# Altium integrated library TI Power Management Power Modules.IntLib: 831 symbols (part 35 of 44)
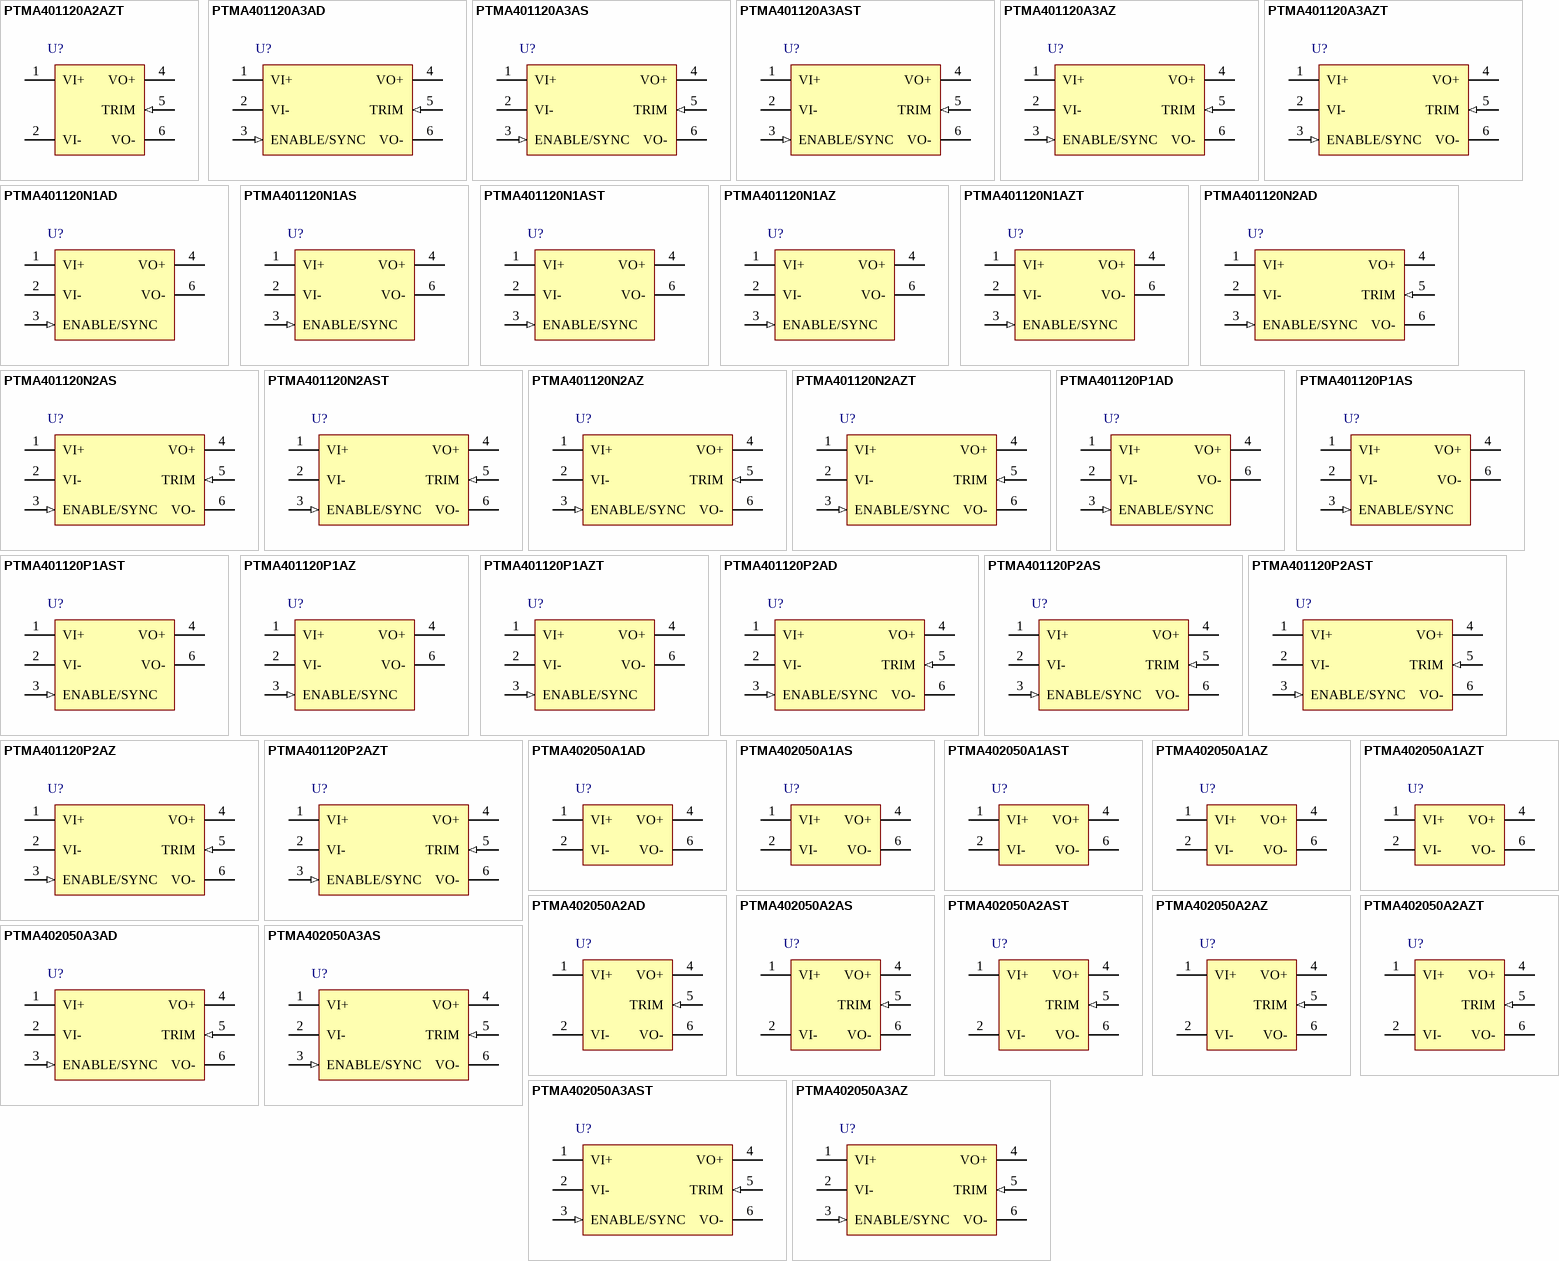
[diagram p57: symbols PTMA401120A2AZT to PTMA402050A3AZ]

## PTMA401120N1AD
designator U?
10 W, 36 to 75 V Input, 1500 V Isolation, DC-DC Converter, -40 to 85 degC, 5-pin Module (EEP5), Pb-Free (RoHS); Manufacturer: Texas Instruments; PartNumber: PTMA401120N1AD; Iout(Max)(A): 1; SubFamily: 48V Standard Pinout Brick and 36V to 75V Input; Vin(Max)(V): 75; Vin(Min)(V): 36; Vout(Max)(V): 13.2; Vout(Min)(V): 10.8; DatasheetVersion: SLTS259B; PackageVersion: 4207367-3/C; PackageReference: EEP5; PackageDescription: 5-Pin Plastic Special Shape, Body 24.38 x 27.94 mm; Supplier 1: Digi-Key; Supplier Part Number 1: 296-21468-ND; Supplier 2: Newark; Supplier Part Number 2: 99K4139; Supplier 3: Mouser; Supplier Part Number 3: 595-PTMA401120N1AD; Eco-Plan: Pb-Free (RoHS); Regulated Outputs(#): 1; Mounting Technology: Through Hole; ComponentLink1Description: Manufacturer URL; ComponentLink1URL: http://www.ti.com/; ComponentLink2Description: Datasheet; ComponentLink2URL: http://www.ti.com/general/docs/lit/getliterature.tsp?genericPartNumber=PTMA401120&fileType=pdf; ComponentLink3Description: Package Specification; ComponentLink3URL: http://www.ti.com/litv/pdf/mpds249; ComponentLink4Description: URL Link1; ComponentLink4URL: Samples URL:http://www.ti.com/product/ptma401120#samples
footprint TI-EEP5_V (Module, 5-Leads, Body 27.94x24.38mm)
pins: 1 VI+ (power) "The positive input for the module with respect to VI-. When powering the module from a negative input voltage, this input is connected to the input source ground.", 2 VI- (power) "The negative input supply for the module, and the 0-V reference for the Enable/Sync inputs. When powering the module from a positive source, this input is connected to the input source return.", 3 ENABLE/SYNC (in) "The Enable input is an open-base logic input that is referenced to VI-. Two ON/OFF enable options are available, positve logic and negative logic. Positive logic devices are enabled by applying a logic high voltage (Open) (See Datasheet)", 4 VO+ (power) "This is the positive power output with respect to VO-. It is dc isolated from the input power pins.", 6 VO- (power) "This is the output power return for the VO+ bus. This terminal should be connected to the common of the load circuit."

## PTMA401120N1AS
designator U?
10 W, 36 to 75 V Input, 1500 V Isolation, DC-DC Converter, -40 to 85 degC, 5-pin Module (EET5); Manufacturer: Texas Instruments; PartNumber: PTMA401120N1AS; Eco-Plan: TBD; Iout(Max)(A): 1; SubFamily: 48V Standard Pinout Brick and 36V to 75V Input; Vin(Max)(V): 75; Vin(Min)(V): 36; Vout(Max)(V): 13.2; Vout(Min)(V): 10.8; DatasheetVersion: SLTS259B; PackageVersion: 4207368-3/C; PackageReference: EET5; PackageDescription: 5-Pin Plastic Special Shape, Body 24.38 x 27.94 mm; Supplier 1: Digi-Key; Supplier Part Number 1: PTMA401120N1AS-ND; Supplier 2: Newark; Supplier Part Number 2: 99K4140; Supplier 3: Mouser; Supplier Part Number 3: 595-PTMA401120N1AS; Regulated Outputs(#): 1; Mounting Technology: Surface Mount; ComponentLink1Description: Manufacturer URL; ComponentLink1URL: http://www.ti.com/; ComponentLink2Description: Datasheet; ComponentLink2URL: http://www.ti.com/general/docs/lit/getliterature.tsp?genericPartNumber=PTMA401120&fileType=pdf; ComponentLink3Description: Package Specification; ComponentLink3URL: http://www.ti.com/litv/pdf/mpds250; ComponentLink4Description: URL Link1; ComponentLink4URL: Samples URL:http://www.ti.com/product/ptma401120#samples
footprint TI-EET5_V (Module, 5-Leads, Body 27.94x24.38mm)
pins: 1 VI+ (power) "The positive input for the module with respect to VI-. When powering the module from a negative input voltage, this input is connected to the input source ground.", 2 VI- (power) "The negative input supply for the module, and the 0-V reference for the Enable/Sync inputs. When powering the module from a positive source, this input is connected to the input source return.", 3 ENABLE/SYNC (in) "The Enable input is an open-base logic input that is referenced to VI-. Two ON/OFF enable options are available, positve logic and negative logic. Positive logic devices are enabled by applying a logic high voltage (Open) (See Datasheet)", 4 VO+ (power) "This is the positive power output with respect to VO-. It is dc isolated from the input power pins.", 6 VO- (power) "This is the output power return for the VO+ bus. This terminal should be connected to the common of the load circuit."

## PTMA401120N1AST
designator U?
10 W, 36 to 75 V Input, 1500 V Isolation, DC-DC Converter, -40 to 85 degC, 5-pin Module (EET5); Manufacturer: Texas Instruments; PartNumber: PTMA401120N1AST; Eco-Plan: TBD; Iout(Max)(A): 1; SubFamily: 48V Standard Pinout Brick and 36V to 75V Input; Vin(Max)(V): 75; Vin(Min)(V): 36; Vout(Max)(V): 13.2; Vout(Min)(V): 10.8; DatasheetVersion: SLTS259B; PackageVersion: 4207368-3/C; PackageReference: EET5; PackageDescription: 5-Pin Plastic Special Shape, Body 24.38 x 27.94 mm; Supplier 1: Digi-Key; Supplier Part Number 1: PTMA401120N1AST-ND; Supplier 2: Mouser; Supplier Part Number 2: 595-PTMA401120N1AST; Regulated Outputs(#): 1; Mounting Technology: Surface Mount; ComponentLink1Description: Manufacturer URL; ComponentLink1URL: http://www.ti.com/; ComponentLink2Description: Datasheet; ComponentLink2URL: http://www.ti.com/general/docs/lit/getliterature.tsp?genericPartNumber=PTMA401120&fileType=pdf; ComponentLink3Description: Package Specification; ComponentLink3URL: http://www.ti.com/litv/pdf/mpds250; ComponentLink4Description: URL Link1; ComponentLink4URL: Samples URL:http://www.ti.com/product/ptma401120#samples
footprint TI-EET5_V (Module, 5-Leads, Body 27.94x24.38mm)
pins: 1 VI+ (power) "The positive input for the module with respect to VI-. When powering the module from a negative input voltage, this input is connected to the input source ground.", 2 VI- (power) "The negative input supply for the module, and the 0-V reference for the Enable/Sync inputs. When powering the module from a positive source, this input is connected to the input source return.", 3 ENABLE/SYNC (in) "The Enable input is an open-base logic input that is referenced to VI-. Two ON/OFF enable options are available, positve logic and negative logic. Positive logic devices are enabled by applying a logic high voltage (Open) (See Datasheet)", 4 VO+ (power) "This is the positive power output with respect to VO-. It is dc isolated from the input power pins.", 6 VO- (power) "This is the output power return for the VO+ bus. This terminal should be connected to the common of the load circuit."

## PTMA401120N1AZ
designator U?
10 W, 36 to 75 V Input, 1500 V Isolation, DC-DC Converter, -40 to 85 degC, 5-pin Module (BET5), Pb-Free (RoHS); Manufacturer: Texas Instruments; PartNumber: PTMA401120N1AZ; Iout(Max)(A): 1; SubFamily: 48V Standard Pinout Brick and 36V to 75V Input; Vin(Max)(V): 75; Vin(Min)(V): 36; Vout(Max)(V): 13.2; Vout(Min)(V): 10.8; DatasheetVersion: SLTS259B; PackageVersion: 4207711-3/B; PackageReference: BET5; PackageDescription: 5-Pin Plastic Special Shape, Body 24.38 x 27.94 mm; Supplier 1: Digi-Key; Supplier Part Number 1: 296-21469-ND; Supplier 2: Newark; Supplier Part Number 2: 99K4142; Supplier 3: Mouser; Supplier Part Number 3: 595-PTMA401120N1AZ; Eco-Plan: Pb-Free (RoHS); Regulated Outputs(#): 1; Mounting Technology: Surface Mount; ComponentLink1Description: Manufacturer URL; ComponentLink1URL: http://www.ti.com/; ComponentLink2Description: Datasheet; ComponentLink2URL: http://www.ti.com/general/docs/lit/getliterature.tsp?genericPartNumber=PTMA401120&fileType=pdf; ComponentLink3Description: Package Specification; ComponentLink3URL: http://www-s.ti.com/sc/psheets/mpds255a/mpds255a.pdf; ComponentLink4Description: URL Link1; ComponentLink4URL: Samples URL:http://www.ti.com/product/ptma401120#samples
footprint TI-BET5_V (Module, 5-Leads, Body 27.94x24.38mm)
pins: 1 VI+ (power) "The positive input for the module with respect to VI-. When powering the module from a negative input voltage, this input is connected to the input source ground.", 2 VI- (power) "The negative input supply for the module, and the 0-V reference for the Enable/Sync inputs. When powering the module from a positive source, this input is connected to the input source return.", 3 ENABLE/SYNC (in) "The Enable input is an open-base logic input that is referenced to VI-. Two ON/OFF enable options are available, positve logic and negative logic. Positive logic devices are enabled by applying a logic high voltage (Open) (See Datasheet)", 4 VO+ (power) "This is the positive power output with respect to VO-. It is dc isolated from the input power pins.", 6 VO- (power) "This is the output power return for the VO+ bus. This terminal should be connected to the common of the load circuit."

## PTMA401120N1AZT
designator U?
10 W, 36 to 75 V Input, 1500 V Isolation, DC-DC Converter, -40 to 85 degC, 5-pin Module (BET5); Manufacturer: Texas Instruments; PartNumber: PTMA401120N1AZT; Eco-Plan: TBD; Iout(Max)(A): 1; SubFamily: 48V Standard Pinout Brick and 36V to 75V Input; Vin(Max)(V): 75; Vin(Min)(V): 36; Vout(Max)(V): 13.2; Vout(Min)(V): 10.8; DatasheetVersion: SLTS259B; PackageVersion: 4207711-3/B; PackageReference: BET5; PackageDescription: 5-Pin Plastic Special Shape, Body 24.38 x 27.94 mm; Supplier 1: Digi-Key; Supplier Part Number 1: PTMA401120N1AZT-ND; Supplier 2: Mouser; Supplier Part Number 2: 595-PTMA401120N1AZT; Regulated Outputs(#): 1; Mounting Technology: Surface Mount; ComponentLink1Description: Manufacturer URL; ComponentLink1URL: http://www.ti.com/; ComponentLink2Description: Datasheet; ComponentLink2URL: http://www.ti.com/general/docs/lit/getliterature.tsp?genericPartNumber=PTMA401120&fileType=pdf; ComponentLink3Description: Package Specification; ComponentLink3URL: http://www-s.ti.com/sc/psheets/mpds255a/mpds255a.pdf; ComponentLink4Description: URL Link1; ComponentLink4URL: Samples URL:http://www.ti.com/product/ptma401120#samples
footprint TI-BET5_V (Module, 5-Leads, Body 27.94x24.38mm)
pins: 1 VI+ (power) "The positive input for the module with respect to VI-. When powering the module from a negative input voltage, this input is connected to the input source ground.", 2 VI- (power) "The negative input supply for the module, and the 0-V reference for the Enable/Sync inputs. When powering the module from a positive source, this input is connected to the input source return.", 3 ENABLE/SYNC (in) "The Enable input is an open-base logic input that is referenced to VI-. Two ON/OFF enable options are available, positve logic and negative logic. Positive logic devices are enabled by applying a logic high voltage (Open) (See Datasheet)", 4 VO+ (power) "This is the positive power output with respect to VO-. It is dc isolated from the input power pins.", 6 VO- (power) "This is the output power return for the VO+ bus. This terminal should be connected to the common of the load circuit."

## PTMA401120N2AD
designator U?
10 W, 36 to 75 V Input, 1500 V Isolation, DC-DC Converter, -40 to 85 degC, 6-pin Module (EEP6), Pb-Free (RoHS); Manufacturer: Texas Instruments; PartNumber: PTMA401120N2AD; Iout(Max)(A): 1; SubFamily: 48V Standard Pinout Brick and 36V to 75V Input; Vin(Max)(V): 75; Vin(Min)(V): 36; Vout(Max)(V): 13.2; Vout(Min)(V): 10.8; DatasheetVersion: SLTS259B; PackageVersion: 4207367-4/C; PackageReference: EEP6; PackageDescription: 6-Pin Plastic Special Shape, Body 24.38 x 27.94 mm; Supplier 1: Digi-Key; Supplier Part Number 1: 296-19774-ND; Supplier 2: Newark; Supplier Part Number 2: 99K4144; Supplier 3: Mouser; Supplier Part Number 3: 595-PTMA401120N2AD; Eco-Plan: Pb-Free (RoHS); Regulated Outputs(#): 1; Mounting Technology: Through Hole; ComponentLink1Description: Manufacturer URL; ComponentLink1URL: http://www.ti.com/; ComponentLink2Description: Datasheet; ComponentLink2URL: http://www.ti.com/general/docs/lit/getliterature.tsp?genericPartNumber=PTMA401120&fileType=pdf; ComponentLink3Description: Package Specification; ComponentLink3URL: http://www.ti.com/litv/pdf/mpds232b; ComponentLink4Description: URL Link1; ComponentLink4URL: Samples URL:http://www.ti.com/product/ptma401120#samples
footprint TI-EEP6_V (Module, 6-Leads, Body 27.94x24.38mm)
pins: 1 VI+ (power) "The positive input for the module with respect to VI- When powering the module from a negative input voltage, this input is connected to the input source ground.", 2 VI- (power) "The negative input supply for the module, and the 0-V reference for the Enable/Sync inputs. When powering the module from a positive source, this input is connected to the input source return.", 3 ENABLE/SYNC (in), 4 VO+ (power) "This is the positive power output with respect to VO-. It is dc isolated from the input power pins.", 5 TRIM (in) "This pin allows the output voltage set point of the module to be increased or decreased up to +/- 10 %. Connecting a resistor between this terminal and VO+ decreases the output voltage set point. Connecting a resistor (See Datasheet)", 6 VO- (power) "This is the output power return for the VO+ bus. This terminal should be connected to the common of the load circuit."

## PTMA401120N2AS
designator U?
10 W, 36 to 75 V Input, 1500 V Isolation, DC-DC Converter, -40 to 85 degC, 6-pin Module (EET6); Manufacturer: Texas Instruments; PartNumber: PTMA401120N2AS; Eco-Plan: TBD; Iout(Max)(A): 1; SubFamily: 48V Standard Pinout Brick and 36V to 75V Input; Vin(Max)(V): 75; Vin(Min)(V): 36; Vout(Max)(V): 13.2; Vout(Min)(V): 10.8; DatasheetVersion: SLTS259B; PackageVersion: 4207368-4/C; PackageReference: EET6; PackageDescription: 6-Pin Plastic Special Shape, Body 24.38 x 27.94 mm; Supplier 1: Digi-Key; Supplier Part Number 1: 296-19775-ND; Supplier 2: Newark; Supplier Part Number 2: 99K4145; Supplier 3: Mouser; Supplier Part Number 3: 595-PTMA401120N2AS; Regulated Outputs(#): 1; Mounting Technology: Surface Mount; ComponentLink1Description: Manufacturer URL; ComponentLink1URL: http://www.ti.com/; ComponentLink2Description: Datasheet; ComponentLink2URL: http://www.ti.com/general/docs/lit/getliterature.tsp?genericPartNumber=PTMA401120&fileType=pdf; ComponentLink3Description: Package Specification; ComponentLink3URL: http://www-s.ti.com/sc/psheets/mpds233b/mpds233b.pdf; ComponentLink4Description: URL Link1; ComponentLink4URL: Samples URL:http://www.ti.com/product/ptma401120#samples
footprint TI-EET6_V (Module, 6-Leads, Body 27.94x24.38mm)
pins: 1 VI+ (power) "The positive input for the module with respect to VI- When powering the module from a negative input voltage, this input is connected to the input source ground.", 2 VI- (power) "The negative input supply for the module, and the 0-V reference for the Enable/Sync inputs. When powering the module from a positive source, this input is connected to the input source return.", 3 ENABLE/SYNC (in), 4 VO+ (power) "This is the positive power output with respect to VO-. It is dc isolated from the input power pins.", 5 TRIM (in) "This pin allows the output voltage set point of the module to be increased or decreased up to +/- 10 %. Connecting a resistor between this terminal and VO+ decreases the output voltage set point. Connecting a resistor (See Datasheet)", 6 VO- (power) "This is the output power return for the VO+ bus. This terminal should be connected to the common of the load circuit."

## PTMA401120N2AST
designator U?
10 W, 36 to 75 V Input, 1500 V Isolation, DC-DC Converter, -40 to 85 degC, 6-pin Module (EET6); Manufacturer: Texas Instruments; PartNumber: PTMA401120N2AST; Eco-Plan: TBD; Iout(Max)(A): 1; SubFamily: 48V Standard Pinout Brick and 36V to 75V Input; Vin(Max)(V): 75; Vin(Min)(V): 36; Vout(Max)(V): 13.2; Vout(Min)(V): 10.8; DatasheetVersion: SLTS259B; PackageVersion: 4207368-4/C; PackageReference: EET6; PackageDescription: 6-Pin Plastic Special Shape, Body 24.38 x 27.94 mm; Supplier 1: Digi-Key; Supplier Part Number 1: PTMA401120N2AST-ND; Supplier 2: Mouser; Supplier Part Number 2: 595-PTMA401120N2AST; Regulated Outputs(#): 1; Mounting Technology: Surface Mount; ComponentLink1Description: Manufacturer URL; ComponentLink1URL: http://www.ti.com/; ComponentLink2Description: Datasheet; ComponentLink2URL: http://www.ti.com/general/docs/lit/getliterature.tsp?genericPartNumber=PTMA401120&fileType=pdf; ComponentLink3Description: Package Specification; ComponentLink3URL: http://www-s.ti.com/sc/psheets/mpds233b/mpds233b.pdf; ComponentLink4Description: URL Link1; ComponentLink4URL: Samples URL:http://www.ti.com/product/ptma401120#samples
footprint TI-EET6_V (Module, 6-Leads, Body 27.94x24.38mm)
pins: 1 VI+ (power) "The positive input for the module with respect to VI- When powering the module from a negative input voltage, this input is connected to the input source ground.", 2 VI- (power) "The negative input supply for the module, and the 0-V reference for the Enable/Sync inputs. When powering the module from a positive source, this input is connected to the input source return.", 3 ENABLE/SYNC (in), 4 VO+ (power) "This is the positive power output with respect to VO-. It is dc isolated from the input power pins.", 5 TRIM (in) "This pin allows the output voltage set point of the module to be increased or decreased up to +/- 10 %. Connecting a resistor between this terminal and VO+ decreases the output voltage set point. Connecting a resistor (See Datasheet)", 6 VO- (power) "This is the output power return for the VO+ bus. This terminal should be connected to the common of the load circuit."

## PTMA401120N2AZ
designator U?
10 W, 36 to 75 V Input, 1500 V Isolation, DC-DC Converter, -40 to 85 degC, 6-pin Module (BET6), Pb-Free (RoHS); Manufacturer: Texas Instruments; PartNumber: PTMA401120N2AZ; Iout(Max)(A): 1; SubFamily: 48V Standard Pinout Brick and 36V to 75V Input; Vin(Max)(V): 75; Vin(Min)(V): 36; Vout(Max)(V): 13.2; Vout(Min)(V): 10.8; DatasheetVersion: SLTS259B; PackageVersion: 4207711-4/B; PackageReference: BET6; PackageDescription: 6-Pin Plastic Special Shape, Body 24.38 x 27.94 mm; Supplier 1: Digi-Key; Supplier Part Number 1: 296-21470-ND; Supplier 2: Newark; Supplier Part Number 2: 99K4147; Supplier 3: Mouser; Supplier Part Number 3: 595-PTMA401120N2AZ; Eco-Plan: Pb-Free (RoHS); Regulated Outputs(#): 1; Mounting Technology: Surface Mount; ComponentLink1Description: Manufacturer URL; ComponentLink1URL: http://www.ti.com/; ComponentLink2Description: Datasheet; ComponentLink2URL: http://www.ti.com/general/docs/lit/getliterature.tsp?genericPartNumber=PTMA401120&fileType=pdf; ComponentLink3Description: Package Specification; ComponentLink3URL: http://www.ti.com/lit/ml/mpds256a/mpds256a.pdf; ComponentLink4Description: URL Link1; ComponentLink4URL: Samples URL:http://www.ti.com/product/ptma401120#samples
footprint TI-BET6_V (Module, 6-Leads, Body 27.94x24.38mm)
pins: 1 VI+ (power) "The positive input for the module with respect to VI- When powering the module from a negative input voltage, this input is connected to the input source ground.", 2 VI- (power) "The negative input supply for the module, and the 0-V reference for the Enable/Sync inputs. When powering the module from a positive source, this input is connected to the input source return.", 3 ENABLE/SYNC (in), 4 VO+ (power) "This is the positive power output with respect to VO-. It is dc isolated from the input power pins.", 5 TRIM (in) "This pin allows the output voltage set point of the module to be increased or decreased up to +/- 10 %. Connecting a resistor between this terminal and VO+ decreases the output voltage set point. Connecting a resistor (See Datasheet)", 6 VO- (power) "This is the output power return for the VO+ bus. This terminal should be connected to the common of the load circuit."

## PTMA401120N2AZT
designator U?
10 W, 36 to 75 V Input, 1500 V Isolation, DC-DC Converter, -40 to 85 degC, 6-pin Module (BET6); Manufacturer: Texas Instruments; PartNumber: PTMA401120N2AZT; Eco-Plan: TBD; Iout(Max)(A): 1; SubFamily: 48V Standard Pinout Brick and 36V to 75V Input; Vin(Max)(V): 75; Vin(Min)(V): 36; Vout(Max)(V): 13.2; Vout(Min)(V): 10.8; DatasheetVersion: SLTS259B; PackageVersion: 4207711-4/B; PackageReference: BET6; PackageDescription: 6-Pin Plastic Special Shape, Body 24.38 x 27.94 mm; Supplier 1: Digi-Key; Supplier Part Number 1: PTMA401120N2AZT-ND; Supplier 2: Mouser; Supplier Part Number 2: 595-PTMA401120N2AZT; Regulated Outputs(#): 1; Mounting Technology: Surface Mount; ComponentLink1Description: Manufacturer URL; ComponentLink1URL: http://www.ti.com/; ComponentLink2Description: Datasheet; ComponentLink2URL: http://www.ti.com/general/docs/lit/getliterature.tsp?genericPartNumber=PTMA401120&fileType=pdf; ComponentLink3Description: Package Specification; ComponentLink3URL: http://www.ti.com/lit/ml/mpds256a/mpds256a.pdf; ComponentLink4Description: URL Link1; ComponentLink4URL: Samples URL:http://www.ti.com/product/ptma401120#samples
footprint TI-BET6_V (Module, 6-Leads, Body 27.94x24.38mm)
pins: 1 VI+ (power) "The positive input for the module with respect to VI- When powering the module from a negative input voltage, this input is connected to the input source ground.", 2 VI- (power) "The negative input supply for the module, and the 0-V reference for the Enable/Sync inputs. When powering the module from a positive source, this input is connected to the input source return.", 3 ENABLE/SYNC (in), 4 VO+ (power) "This is the positive power output with respect to VO-. It is dc isolated from the input power pins.", 5 TRIM (in) "This pin allows the output voltage set point of the module to be increased or decreased up to +/- 10 %. Connecting a resistor between this terminal and VO+ decreases the output voltage set point. Connecting a resistor (See Datasheet)", 6 VO- (power) "This is the output power return for the VO+ bus. This terminal should be connected to the common of the load circuit."

## PTMA401120P1AD
designator U?
10 W, 36 to 75 V Input, 1500 V Isolation, DC-DC Converter, -40 to 85 degC, 5-pin Module (EEP5), Pb-Free (RoHS); Manufacturer: Texas Instruments; PartNumber: PTMA401120P1AD; Iout(Max)(A): 1; SubFamily: 48V Standard Pinout Brick and 36V to 75V Input; Vin(Max)(V): 75; Vin(Min)(V): 36; Vout(Max)(V): 13.2; Vout(Min)(V): 10.8; DatasheetVersion: SLTS259B; PackageVersion: 4207367-3/C; PackageReference: EEP5; PackageDescription: 5-Pin Plastic Special Shape, Body 24.38 x 27.94 mm; Supplier 1: Digi-Key; Supplier Part Number 1: 296-21471-ND; Supplier 2: Newark; Supplier Part Number 2: 99K4149; Supplier 3: Mouser; Supplier Part Number 3: 595-PTMA401120P1AD; Eco-Plan: Pb-Free (RoHS); Regulated Outputs(#): 1; Mounting Technology: Through Hole; ComponentLink1Description: Manufacturer URL; ComponentLink1URL: http://www.ti.com/; ComponentLink2Description: Datasheet; ComponentLink2URL: http://www.ti.com/general/docs/lit/getliterature.tsp?genericPartNumber=PTMA401120&fileType=pdf; ComponentLink3Description: Package Specification; ComponentLink3URL: http://www.ti.com/litv/pdf/mpds249; ComponentLink4Description: URL Link1; ComponentLink4URL: Samples URL:http://www.ti.com/product/ptma401120#samples
footprint TI-EEP5_V (Module, 5-Leads, Body 27.94x24.38mm)
pins: 1 VI+ (power) "The positive input for the module with respect to VI-. When powering the module from a negative input voltage, this input is connected to the input source ground.", 2 VI- (power) "The negative input supply for the module, and the 0-V reference for the Enable/Sync inputs. When powering the module from a positive source, this input is connected to the input source return.", 3 ENABLE/SYNC (in) "The Enable input is an open-base logic input that is referenced to VI-. Two ON/OFF enable options are available, positve logic and negative logic. Positive logic devices are enabled by applying a logic high voltage (Open) (See Datasheet)", 4 VO+ (power) "This is the positive power output with respect to VO-. It is dc isolated from the input power pins.", 6 VO- (power) "This is the output power return for the VO+ bus. This terminal should be connected to the common of the load circuit."

## PTMA401120P1AS
designator U?
10 W, 36 to 75 V Input, 1500 V Isolation, DC-DC Converter, -40 to 85 degC, 5-pin Module (EET5); Manufacturer: Texas Instruments; PartNumber: PTMA401120P1AS; Eco-Plan: TBD; Iout(Max)(A): 1; SubFamily: 48V Standard Pinout Brick and 36V to 75V Input; Vin(Max)(V): 75; Vin(Min)(V): 36; Vout(Max)(V): 13.2; Vout(Min)(V): 10.8; DatasheetVersion: SLTS259B; PackageVersion: 4207368-3/C; PackageReference: EET5; PackageDescription: 5-Pin Plastic Special Shape, Body 24.38 x 27.94 mm; Supplier 1: Digi-Key; Supplier Part Number 1: PTMA401120P1AS-ND; Supplier 2: Mouser; Supplier Part Number 2: 595-PTMA401120P1AS; Regulated Outputs(#): 1; Mounting Technology: Surface Mount; ComponentLink1Description: Manufacturer URL; ComponentLink1URL: http://www.ti.com/; ComponentLink2Description: Datasheet; ComponentLink2URL: http://www.ti.com/general/docs/lit/getliterature.tsp?genericPartNumber=PTMA401120&fileType=pdf; ComponentLink3Description: Package Specification; ComponentLink3URL: http://www.ti.com/litv/pdf/mpds250; ComponentLink4Description: URL Link1; ComponentLink4URL: Samples URL:http://www.ti.com/product/ptma401120#samples
footprint TI-EET5_V (Module, 5-Leads, Body 27.94x24.38mm)
pins: 1 VI+ (power) "The positive input for the module with respect to VI-. When powering the module from a negative input voltage, this input is connected to the input source ground.", 2 VI- (power) "The negative input supply for the module, and the 0-V reference for the Enable/Sync inputs. When powering the module from a positive source, this input is connected to the input source return.", 3 ENABLE/SYNC (in) "The Enable input is an open-base logic input that is referenced to VI-. Two ON/OFF enable options are available, positve logic and negative logic. Positive logic devices are enabled by applying a logic high voltage (Open) (See Datasheet)", 4 VO+ (power) "This is the positive power output with respect to VO-. It is dc isolated from the input power pins.", 6 VO- (power) "This is the output power return for the VO+ bus. This terminal should be connected to the common of the load circuit."

## PTMA401120P1AST
designator U?
10 W, 36 to 75 V Input, 1500 V Isolation, DC-DC Converter, -40 to 85 degC, 5-pin Module (EET5); Manufacturer: Texas Instruments; PartNumber: PTMA401120P1AST; Eco-Plan: TBD; Iout(Max)(A): 1; SubFamily: 48V Standard Pinout Brick and 36V to 75V Input; Vin(Max)(V): 75; Vin(Min)(V): 36; Vout(Max)(V): 13.2; Vout(Min)(V): 10.8; DatasheetVersion: SLTS259B; PackageVersion: 4207368-3/C; PackageReference: EET5; PackageDescription: 5-Pin Plastic Special Shape, Body 24.38 x 27.94 mm; Supplier 1: Digi-Key; Supplier Part Number 1: PTMA401120P1AST-ND; Supplier 2: Mouser; Supplier Part Number 2: 595-PTMA401120P1AST; Regulated Outputs(#): 1; Mounting Technology: Surface Mount; ComponentLink1Description: Manufacturer URL; ComponentLink1URL: http://www.ti.com/; ComponentLink2Description: Datasheet; ComponentLink2URL: http://www.ti.com/general/docs/lit/getliterature.tsp?genericPartNumber=PTMA401120&fileType=pdf; ComponentLink3Description: Package Specification; ComponentLink3URL: http://www.ti.com/litv/pdf/mpds250; ComponentLink4Description: URL Link1; ComponentLink4URL: Samples URL:http://www.ti.com/product/ptma401120#samples
footprint TI-EET5_V (Module, 5-Leads, Body 27.94x24.38mm)
pins: 1 VI+ (power) "The positive input for the module with respect to VI-. When powering the module from a negative input voltage, this input is connected to the input source ground.", 2 VI- (power) "The negative input supply for the module, and the 0-V reference for the Enable/Sync inputs. When powering the module from a positive source, this input is connected to the input source return.", 3 ENABLE/SYNC (in) "The Enable input is an open-base logic input that is referenced to VI-. Two ON/OFF enable options are available, positve logic and negative logic. Positive logic devices are enabled by applying a logic high voltage (Open) (See Datasheet)", 4 VO+ (power) "This is the positive power output with respect to VO-. It is dc isolated from the input power pins.", 6 VO- (power) "This is the output power return for the VO+ bus. This terminal should be connected to the common of the load circuit."

## PTMA401120P1AZ
designator U?
10 W, 36 to 75 V Input, 1500 V Isolation, DC-DC Converter, -40 to 85 degC, 5-pin Module (BET5), Pb-Free (RoHS); Manufacturer: Texas Instruments; PartNumber: PTMA401120P1AZ; Iout(Max)(A): 1; SubFamily: 48V Standard Pinout Brick and 36V to 75V Input; Vin(Max)(V): 75; Vin(Min)(V): 36; Vout(Max)(V): 13.2; Vout(Min)(V): 10.8; DatasheetVersion: SLTS259B; PackageVersion: 4207711-3/B; PackageReference: BET5; PackageDescription: 5-Pin Plastic Special Shape, Body 24.38 x 27.94 mm; Supplier 1: Digi-Key; Supplier Part Number 1: 296-21472-ND; Supplier 2: Newark; Supplier Part Number 2: 99K4152; Supplier 3: Mouser; Supplier Part Number 3: 595-PTMA401120P1AZ; Eco-Plan: Pb-Free (RoHS); Regulated Outputs(#): 1; Mounting Technology: Surface Mount; ComponentLink1Description: Manufacturer URL; ComponentLink1URL: http://www.ti.com/; ComponentLink2Description: Datasheet; ComponentLink2URL: http://www.ti.com/general/docs/lit/getliterature.tsp?genericPartNumber=PTMA401120&fileType=pdf; ComponentLink3Description: Package Specification; ComponentLink3URL: http://www-s.ti.com/sc/psheets/mpds255a/mpds255a.pdf; ComponentLink4Description: URL Link1; ComponentLink4URL: Samples URL:http://www.ti.com/product/ptma401120#samples
footprint TI-BET5_V (Module, 5-Leads, Body 27.94x24.38mm)
pins: 1 VI+ (power) "The positive input for the module with respect to VI-. When powering the module from a negative input voltage, this input is connected to the input source ground.", 2 VI- (power) "The negative input supply for the module, and the 0-V reference for the Enable/Sync inputs. When powering the module from a positive source, this input is connected to the input source return.", 3 ENABLE/SYNC (in) "The Enable input is an open-base logic input that is referenced to VI-. Two ON/OFF enable options are available, positve logic and negative logic. Positive logic devices are enabled by applying a logic high voltage (Open) (See Datasheet)", 4 VO+ (power) "This is the positive power output with respect to VO-. It is dc isolated from the input power pins.", 6 VO- (power) "This is the output power return for the VO+ bus. This terminal should be connected to the common of the load circuit."

## PTMA401120P1AZT
designator U?
10 W, 36 to 75 V Input, 1500 V Isolation, DC-DC Converter, -40 to 85 degC, 5-pin Module (BET5); Manufacturer: Texas Instruments; PartNumber: PTMA401120P1AZT; Eco-Plan: TBD; Iout(Max)(A): 1; SubFamily: 48V Standard Pinout Brick and 36V to 75V Input; Vin(Max)(V): 75; Vin(Min)(V): 36; Vout(Max)(V): 13.2; Vout(Min)(V): 10.8; DatasheetVersion: SLTS259B; PackageVersion: 4207711-3/B; PackageReference: BET5; PackageDescription: 5-Pin Plastic Special Shape, Body 24.38 x 27.94 mm; Supplier 1: Digi-Key; Supplier Part Number 1: PTMA401120P1AZT-ND; Supplier 2: Mouser; Supplier Part Number 2: 595-PTMA401120P1AZT; Regulated Outputs(#): 1; Mounting Technology: Surface Mount; ComponentLink1Description: Manufacturer URL; ComponentLink1URL: http://www.ti.com/; ComponentLink2Description: Datasheet; ComponentLink2URL: http://www.ti.com/general/docs/lit/getliterature.tsp?genericPartNumber=PTMA401120&fileType=pdf; ComponentLink3Description: Package Specification; ComponentLink3URL: http://www-s.ti.com/sc/psheets/mpds255a/mpds255a.pdf; ComponentLink4Description: URL Link1; ComponentLink4URL: Samples URL:http://www.ti.com/product/ptma401120#samples
footprint TI-BET5_V (Module, 5-Leads, Body 27.94x24.38mm)
pins: 1 VI+ (power) "The positive input for the module with respect to VI-. When powering the module from a negative input voltage, this input is connected to the input source ground.", 2 VI- (power) "The negative input supply for the module, and the 0-V reference for the Enable/Sync inputs. When powering the module from a positive source, this input is connected to the input source return.", 3 ENABLE/SYNC (in) "The Enable input is an open-base logic input that is referenced to VI-. Two ON/OFF enable options are available, positve logic and negative logic. Positive logic devices are enabled by applying a logic high voltage (Open) (See Datasheet)", 4 VO+ (power) "This is the positive power output with respect to VO-. It is dc isolated from the input power pins.", 6 VO- (power) "This is the output power return for the VO+ bus. This terminal should be connected to the common of the load circuit."

## PTMA401120P2AD
designator U?
10 W, 36 to 75 V Input, 1500 V Isolation, DC-DC Converter, -40 to 85 degC, 6-pin Module (EEP6), Pb-Free (RoHS); Manufacturer: Texas Instruments; PartNumber: PTMA401120P2AD; Iout(Max)(A): 1; SubFamily: 48V Standard Pinout Brick and 36V to 75V Input; Vin(Max)(V): 75; Vin(Min)(V): 36; Vout(Max)(V): 13.2; Vout(Min)(V): 10.8; DatasheetVersion: SLTS259B; PackageVersion: 4207367-4/C; PackageReference: EEP6; PackageDescription: 6-Pin Plastic Special Shape, Body 24.38 x 27.94 mm; Supplier 1: Digi-Key; Supplier Part Number 1: 296-21473-ND; Supplier 2: Newark; Supplier Part Number 2: 99K4154; Supplier 3: Mouser; Supplier Part Number 3: 595-PTMA401120P2AD; Eco-Plan: Pb-Free (RoHS); Regulated Outputs(#): 1; Mounting Technology: Through Hole; ComponentLink1Description: Manufacturer URL; ComponentLink1URL: http://www.ti.com/; ComponentLink2Description: Datasheet; ComponentLink2URL: http://www.ti.com/general/docs/lit/getliterature.tsp?genericPartNumber=PTMA401120&fileType=pdf; ComponentLink3Description: Package Specification; ComponentLink3URL: http://www.ti.com/litv/pdf/mpds232b; ComponentLink4Description: URL Link1; ComponentLink4URL: Samples URL:http://www.ti.com/product/ptma401120#samples
footprint TI-EEP6_V (Module, 6-Leads, Body 27.94x24.38mm)
pins: 1 VI+ (power) "The positive input for the module with respect to VI- When powering the module from a negative input voltage, this input is connected to the input source ground.", 2 VI- (power) "The negative input supply for the module, and the 0-V reference for the Enable/Sync inputs. When powering the module from a positive source, this input is connected to the input source return.", 3 ENABLE/SYNC (in), 4 VO+ (power) "This is the positive power output with respect to VO-. It is dc isolated from the input power pins.", 5 TRIM (in) "This pin allows the output voltage set point of the module to be increased or decreased up to +/- 10 %. Connecting a resistor between this terminal and VO+ decreases the output voltage set point. Connecting a resistor (See Datasheet)", 6 VO- (power) "This is the output power return for the VO+ bus. This terminal should be connected to the common of the load circuit."

## PTMA401120P2AS
designator U?
10 W, 36 to 75 V Input, 1500 V Isolation, DC-DC Converter, -40 to 85 degC, 6-pin Module (EET6); Manufacturer: Texas Instruments; PartNumber: PTMA401120P2AS; Eco-Plan: TBD; Iout(Max)(A): 1; SubFamily: 48V Standard Pinout Brick and 36V to 75V Input; Vin(Max)(V): 75; Vin(Min)(V): 36; Vout(Max)(V): 13.2; Vout(Min)(V): 10.8; DatasheetVersion: SLTS259B; PackageVersion: 4207368-4/C; PackageReference: EET6; PackageDescription: 6-Pin Plastic Special Shape, Body 24.38 x 27.94 mm; Supplier 1: Digi-Key; Supplier Part Number 1: PTMA401120P2AS-ND; Supplier 2: Mouser; Supplier Part Number 2: 595-PTMA401120P2AS; Regulated Outputs(#): 1; Mounting Technology: Surface Mount; ComponentLink1Description: Manufacturer URL; ComponentLink1URL: http://www.ti.com/; ComponentLink2Description: Datasheet; ComponentLink2URL: http://www.ti.com/general/docs/lit/getliterature.tsp?genericPartNumber=PTMA401120&fileType=pdf; ComponentLink3Description: Package Specification; ComponentLink3URL: http://www-s.ti.com/sc/psheets/mpds233b/mpds233b.pdf; ComponentLink4Description: URL Link1; ComponentLink4URL: Samples URL:http://www.ti.com/product/ptma401120#samples
footprint TI-EET6_V (Module, 6-Leads, Body 27.94x24.38mm)
pins: 1 VI+ (power) "The positive input for the module with respect to VI- When powering the module from a negative input voltage, this input is connected to the input source ground.", 2 VI- (power) "The negative input supply for the module, and the 0-V reference for the Enable/Sync inputs. When powering the module from a positive source, this input is connected to the input source return.", 3 ENABLE/SYNC (in), 4 VO+ (power) "This is the positive power output with respect to VO-. It is dc isolated from the input power pins.", 5 TRIM (in) "This pin allows the output voltage set point of the module to be increased or decreased up to +/- 10 %. Connecting a resistor between this terminal and VO+ decreases the output voltage set point. Connecting a resistor (See Datasheet)", 6 VO- (power) "This is the output power return for the VO+ bus. This terminal should be connected to the common of the load circuit."

## PTMA401120P2AST
designator U?
10 W, 36 to 75 V Input, 1500 V Isolation, DC-DC Converter, -40 to 85 degC, 6-pin Module (EET6); Manufacturer: Texas Instruments; PartNumber: PTMA401120P2AST; Eco-Plan: TBD; Iout(Max)(A): 1; SubFamily: 48V Standard Pinout Brick and 36V to 75V Input; Vin(Max)(V): 75; Vin(Min)(V): 36; Vout(Max)(V): 13.2; Vout(Min)(V): 10.8; DatasheetVersion: SLTS259B; PackageVersion: 4207368-4/C; PackageReference: EET6; PackageDescription: 6-Pin Plastic Special Shape, Body 24.38 x 27.94 mm; Supplier 1: Digi-Key; Supplier Part Number 1: PTMA401120P2AST-ND; Supplier 2: Mouser; Supplier Part Number 2: 595-PTMA401120P2AST; Regulated Outputs(#): 1; Mounting Technology: Surface Mount; ComponentLink1Description: Manufacturer URL; ComponentLink1URL: http://www.ti.com/; ComponentLink2Description: Datasheet; ComponentLink2URL: http://www.ti.com/general/docs/lit/getliterature.tsp?genericPartNumber=PTMA401120&fileType=pdf; ComponentLink3Description: Package Specification; ComponentLink3URL: http://www-s.ti.com/sc/psheets/mpds233b/mpds233b.pdf; ComponentLink4Description: URL Link1; ComponentLink4URL: Samples URL:http://www.ti.com/product/ptma401120#samples
footprint TI-EET6_V (Module, 6-Leads, Body 27.94x24.38mm)
pins: 1 VI+ (power) "The positive input for the module with respect to VI- When powering the module from a negative input voltage, this input is connected to the input source ground.", 2 VI- (power) "The negative input supply for the module, and the 0-V reference for the Enable/Sync inputs. When powering the module from a positive source, this input is connected to the input source return.", 3 ENABLE/SYNC (in), 4 VO+ (power) "This is the positive power output with respect to VO-. It is dc isolated from the input power pins.", 5 TRIM (in) "This pin allows the output voltage set point of the module to be increased or decreased up to +/- 10 %. Connecting a resistor between this terminal and VO+ decreases the output voltage set point. Connecting a resistor (See Datasheet)", 6 VO- (power) "This is the output power return for the VO+ bus. This terminal should be connected to the common of the load circuit."

## PTMA401120P2AZ
designator U?
10 W, 36 to 75 V Input, 1500 V Isolation, DC-DC Converter, -40 to 85 degC, 6-pin Module (BET6), Pb-Free (RoHS); Manufacturer: Texas Instruments; PartNumber: PTMA401120P2AZ; Iout(Max)(A): 1; SubFamily: Standard Brick Module; Vin(Max)(V): 75; Vin(Min)(V): 36; VO Adjustable: TRUE; Vout(Max)(V): 13.2; Vout(Min)(V): 10.8; DatasheetVersion: SLTS259B; PackageVersion: 4207711-4/B; PackageReference: BET6; PackageDescription: 6-Pin Plastic Special Shape, Body 24.38 x 27.94 mm; Supplier 1: Digi-Key; Supplier Part Number 1: 296-21474-ND; Supplier 2: Newark; Supplier Part Number 2: 99K4157; Supplier 3: Mouser; Supplier Part Number 3: 595-PTMA401120P2AZ; Eco-Plan: Pb-Free (RoHS); Regulated Outputs(#): 1; Mounting Technology: Surface Mount; ComponentLink1Description: Manufacturer URL; ComponentLink1URL: http://www.ti.com/; ComponentLink2Description: Datasheet; ComponentLink2URL: http://www.ti.com/general/docs/lit/getliterature.tsp?genericPartNumber=PTMA401120&fileType=pdf; ComponentLink3Description: Package Specification; ComponentLink3URL: http://www.ti.com/lit/ml/mpds256a/mpds256a.pdf; ComponentLink4Description: URL Link1; ComponentLink4URL: Samples URL:http://www.ti.com/product/ptma401120#samples
footprint TI-BET6_V (Module, 6-Leads, Body 27.94x24.38mm)
pins: 1 VI+ (power) "The positive input for the module with respect to VI- When powering the module from a negative input voltage, this input is connected to the input source ground.", 2 VI- (power) "The negative input supply for the module, and the 0-V reference for the Enable/Sync inputs. When powering the module from a positive source, this input is connected to the input source return.", 3 ENABLE/SYNC (in), 4 VO+ (power) "This is the positive power output with respect to VO-. It is dc isolated from the input power pins.", 5 TRIM (in) "This pin allows the output voltage set point of the module to be increased or decreased up to +/- 10 %. Connecting a resistor between this terminal and VO+ decreases the output voltage set point. Connecting a resistor (See Datasheet)", 6 VO- (power) "This is the output power return for the VO+ bus. This terminal should be connected to the common of the load circuit."

## PTMA401120P2AZT
designator U?
10 W, 36 to 75 V Input, 1500 V Isolation, DC-DC Converter, -40 to 85 degC, 6-pin Module (BET6); Manufacturer: Texas Instruments; PartNumber: PTMA401120P2AZT; Eco-Plan: TBD; Iout(Max)(A): 1; SubFamily: Standard Brick Module; Vin(Max)(V): 75; Vin(Min)(V): 36; VO Adjustable: TRUE; Vout(Max)(V): 13.2; Vout(Min)(V): 10.8; DatasheetVersion: SLTS259B; PackageVersion: 4207711-4/B; PackageReference: BET6; PackageDescription: 6-Pin Plastic Special Shape, Body 24.38 x 27.94 mm; Supplier 1: Digi-Key; Supplier Part Number 1: PTMA401120P2AZT-ND; Supplier 2: Mouser; Supplier Part Number 2: 595-PTMA401120P2AZT; Regulated Outputs(#): 1; Mounting Technology: Surface Mount; ComponentLink1Description: Manufacturer URL; ComponentLink1URL: http://www.ti.com/; ComponentLink2Description: Datasheet; ComponentLink2URL: http://www.ti.com/general/docs/lit/getliterature.tsp?genericPartNumber=PTMA401120&fileType=pdf; ComponentLink3Description: Package Specification; ComponentLink3URL: http://www.ti.com/lit/ml/mpds256a/mpds256a.pdf; ComponentLink4Description: URL Link1; ComponentLink4URL: Samples URL:http://www.ti.com/product/ptma401120#samples
footprint TI-BET6_V (Module, 6-Leads, Body 27.94x24.38mm)
pins: 1 VI+ (power) "The positive input for the module with respect to VI- When powering the module from a negative input voltage, this input is connected to the input source ground.", 2 VI- (power) "The negative input supply for the module, and the 0-V reference for the Enable/Sync inputs. When powering the module from a positive source, this input is connected to the input source return.", 3 ENABLE/SYNC (in), 4 VO+ (power) "This is the positive power output with respect to VO-. It is dc isolated from the input power pins.", 5 TRIM (in) "This pin allows the output voltage set point of the module to be increased or decreased up to +/- 10 %. Connecting a resistor between this terminal and VO+ decreases the output voltage set point. Connecting a resistor (See Datasheet)", 6 VO- (power) "This is the output power return for the VO+ bus. This terminal should be connected to the common of the load circuit."

## PTMA402050A1AD
designator U?
10 W, 36 to 75 V Input, 1500 V Isolation, DC-DC Converter, -40 to 85 degC, 4-pin Module (EEP4), Pb-Free (RoHS); Manufacturer: Texas Instruments; PartNumber: PTMA402050A1AD; Iout(Max)(A): 2; Regulated Outputs(#): 1; SubFamily: Standard Brick Module; Vin(Max)(V): 75; Vin(Min)(V): 36; Vout(Max)(V): 5.5; Vout(Min)(V): 4.5; DatasheetVersion: SLTS259B; PackageVersion: 4207367-2/C; PackageReference: EEP4; PackageDescription: 4-Pin Plastic Special Shape, Body 24.38 x 27.94 mm; Supplier 1: Digi-Key; Supplier Part Number 1: 296-32720-ND; Supplier 2: Newark; Supplier Part Number 2: 81K3743; Supplier 3: Mouser; Supplier Part Number 3: 595-PTMA402050A1AD; Eco-Plan: Pb-Free (RoHS); Mounting Technology: Through Hole; ComponentLink1Description: Manufacturer URL; ComponentLink1URL: http://www.ti.com/; ComponentLink2Description: Datasheet; ComponentLink2URL: http://www.ti.com/general/docs/lit/getliterature.tsp?genericPartNumber=PTMA402050&fileType=pdf; ComponentLink3Description: Package Specification; ComponentLink3URL: http://www.ti.com/litv/pdf/mpds248; ComponentLink4Description: URL Link1; ComponentLink4URL: Samples URL:http://www.ti.com/product/ptma402050#samples
footprint TI-EEP4_V (Module, 4-Leads, Body 27.94x24.38mm)
pins: 1 VI+ (power) "The positive input for the module with respect to VI-. When powering the module from a negative input voltage, this input is connected to the input source ground.", 2 VI- (power) "The negative input supply for the module, and the 0-V reference for the Enable/Sync inputs. When powering the module from a positive source, this input is connected to the input source return.", 4 VO+ (power) "This is the positive power output with respect to VO-. It is dc isolated from the input power pins.", 6 VO- (power) "This is the output power return for the VO+ bus. This terminal should be connected to the common of the load circuit."

## PTMA402050A1AS
designator U?
10 W, 36 to 75 V Input, 1500 V Isolation, DC-DC Converter, -40 to 85 degC, 4-pin Module (EET4); Manufacturer: Texas Instruments; PartNumber: PTMA402050A1AS; Eco-Plan: TBD; Iout(Max)(A): 2; Regulated Outputs(#): 1; SubFamily: Standard Brick Module; Vin(Max)(V): 75; Vin(Min)(V): 36; Vout(Max)(V): 5.5; Vout(Min)(V): 4.5; DatasheetVersion: SLTS259B; PackageVersion: 4207368-2/C; PackageReference: EET4; PackageDescription: 4-Pin Plastic Special Shape, Body 24.38 x 27.94 mm; Supplier 1: Digi-Key; Supplier Part Number 1: PTMA402050A1AS-ND; Supplier 2: Mouser; Supplier Part Number 2: 595-PTMA402050A1AS; Mounting Technology: Surface Mount; ComponentLink1Description: Manufacturer URL; ComponentLink1URL: http://www.ti.com/; ComponentLink2Description: Datasheet; ComponentLink2URL: http://www.ti.com/general/docs/lit/getliterature.tsp?genericPartNumber=PTMA402050&fileType=pdf; ComponentLink3Description: Package Specification; ComponentLink3URL: http://www.ti.com/litv/pdf/mpds251; ComponentLink4Description: URL Link1; ComponentLink4URL: Samples URL:http://www.ti.com/product/ptma402050#samples
footprint TI-EET4_V (Moudle, 4-Leads, Body 27.94x24.38mm)
pins: 1 VI+ (power) "The positive input for the module with respect to VI-. When powering the module from a negative input voltage, this input is connected to the input source ground.", 2 VI- (power) "The negative input supply for the module, and the 0-V reference for the Enable/Sync inputs. When powering the module from a positive source, this input is connected to the input source return.", 4 VO+ (power) "This is the positive power output with respect to VO-. It is dc isolated from the input power pins.", 6 VO- (power) "This is the output power return for the VO+ bus. This terminal should be connected to the common of the load circuit."

## PTMA402050A1AST
designator U?
10 W, 36 to 75 V Input, 1500 V Isolation, DC-DC Converter, -40 to 85 degC, 4-pin Module (EET4); Manufacturer: Texas Instruments; PartNumber: PTMA402050A1AST; Eco-Plan: TBD; Iout(Max)(A): 2; Regulated Outputs(#): 1; SubFamily: Standard Brick Module; Vin(Max)(V): 75; Vin(Min)(V): 36; Vout(Max)(V): 5.5; Vout(Min)(V): 4.5; DatasheetVersion: SLTS259B; PackageVersion: 4207368-2/C; PackageReference: EET4; PackageDescription: 4-Pin Plastic Special Shape, Body 24.38 x 27.94 mm; Supplier 1: Digi-Key; Supplier Part Number 1: PTMA402050A1AST-ND; Supplier 2: Mouser; Supplier Part Number 2: 595-PTMA402050A1AST; Mounting Technology: Surface Mount; ComponentLink1Description: Manufacturer URL; ComponentLink1URL: http://www.ti.com/; ComponentLink2Description: Datasheet; ComponentLink2URL: http://www.ti.com/general/docs/lit/getliterature.tsp?genericPartNumber=PTMA402050&fileType=pdf; ComponentLink3Description: Package Specification; ComponentLink3URL: http://www.ti.com/litv/pdf/mpds251; ComponentLink4Description: URL Link1; ComponentLink4URL: Samples URL:http://www.ti.com/product/ptma402050#samples
footprint TI-EET4_V (Moudle, 4-Leads, Body 27.94x24.38mm)
pins: 1 VI+ (power) "The positive input for the module with respect to VI-. When powering the module from a negative input voltage, this input is connected to the input source ground.", 2 VI- (power) "The negative input supply for the module, and the 0-V reference for the Enable/Sync inputs. When powering the module from a positive source, this input is connected to the input source return.", 4 VO+ (power) "This is the positive power output with respect to VO-. It is dc isolated from the input power pins.", 6 VO- (power) "This is the output power return for the VO+ bus. This terminal should be connected to the common of the load circuit."